# Altium footprint library LM5160DNTT.PcbLib: 1 footprints
Each footprint in its own frame and in the unit in brackets; x right, y up, seen from the top. Pads: shape width x height; smd on the part's side, far side on the other; paste and mask are expansions set on the pad; w line width, h text height; cw(c..) or ccw(c..) is an arc to the next point about the centre after c.
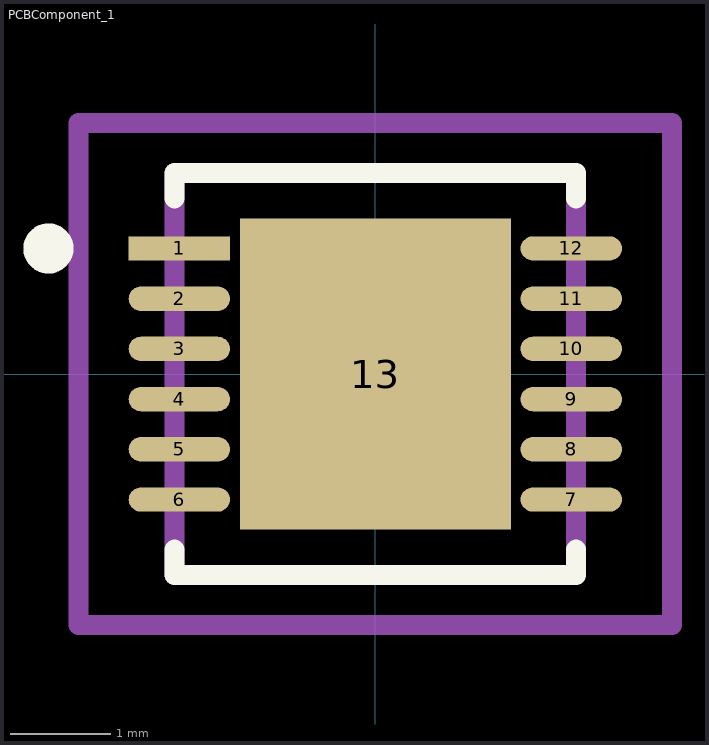
[diagram p0: the footprint, top view; thin cyan lines are the x and y axes]

## PCBComponent_1 [mm]
pads (13):
  rect 1.01x0.242 smd paste+0 mask+0: 1(-1.951,1.25)
  rrect100% 1.01x0.242 smd paste+0 mask+0: 2(-1.951,0.75) 3(-1.951,0.25) 4(-1.951,-0.25) 5(-1.951,-0.75) 6(-1.951,-1.25) 7(1.951,-1.25) 8(1.951,-0.75) 9(1.951,-0.25) 10(1.951,0.25) 11(1.951,0.75) 12(1.951,1.25)
  rect 2.7x3.1 smd paste-1000 mask+0: 13(0,0)
Top Overlay:
  circle w0.25: c-3.256,1.25 r0.125
  lines w0.2: -2,-1.75 -2,-2 2,-2 2,-1.75 ; -2,1.75 -2,2 2,2 2,1.75
Top Paste:
  rectangle: -0.82,-1.02 0.82,1.02
Top Assembly:
  lines w0.2: -2.956,-2.5 -2.956,2.5 2.956,2.5 2.956,-2.5 -2.956,-2.5
  text ".Designator" at 0,-0.001 h1
Top 3D Body:
  lines w0.2: -2,-2 -2,2 2,2 2,-2 -2,-2
Top Courtyard:
  lines w0.2: -2.956,-2.5 -2.956,2.5 2.956,2.5 2.956,-2.5 -2.956,-2.5
Top Component Center:
  lines w0.1: -0.5,0 0.5,0 ; 0,-0.5 0,0.5
3D body "IC_Texas_Instruments_LDC1612DNTT_eec.STEP": height 0.25, standoff 0, extent -2.956,-2.5 2.956,2.5